# Altium schematic symbol library Connector1x2.SchLib: 1 symbol
Pins are listed as number, name and electrical type; pins without a type are passive.

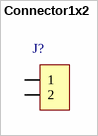
[diagram p0: symbol Connector1x2]

## Connector1x2
designator J?  (value not drawn)
pins: 1, 2